# Altium schematic symbol library TP4054-42-SOT25-R.SchLib: 1 symbol
Pins are listed as number, name and electrical type; pins without a type are passive.

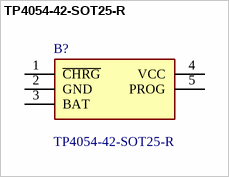
[diagram p0: symbol TP4054-42-SOT25-R]

## TP4054-42-SOT25-R
designator B?
Standalone Linear Li-ion Battery Charger with Thermal Regulation, SOT-23-5; Manufacturer_Name: TOP POWER; Geometry.Height: 1mm; Manufacturer_Part_Number: TP4054-42-SOT25-R; Mouser Part Number: *; Mouser Price/Stock: *; Arrow Part Number: *; Arrow Price/Stock: *; Datasheet Link: http://images.100y.com.tw/pdf_file/38-TP-TP4054x.pdf
footprint SOT95P280X100-5N
pins: 1 ~{CHRG}, 2 GND, 3 BAT, 4 VCC, 5 PROG